# Altium schematic symbol library FUSB302MPX.Schlib: 1 symbol
Pins are listed as number, name and electrical type; pins without a type are passive.

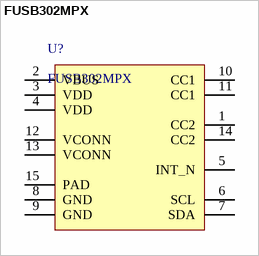
[diagram p0: symbol FUSB302MPX]

## FUSB302MPX
designator U?
USB Controller USB 3.1 USB Interface 14-MLP (2.5x2.5)
pins: 1 CC2, 2 VBUS, 3 VDD, 4 VDD, 5 INT_N, 6 SCL, 7 SDA, 8 GND, 9 GND, 10 CC1, 11 CC1, 12 VCONN, 13 VCONN, 14 CC2, 15 PAD